# Altium integrated library BMP280.IntLib: 1 symbol
Pins are listed as number, name and electrical type; pins without a type are passive.

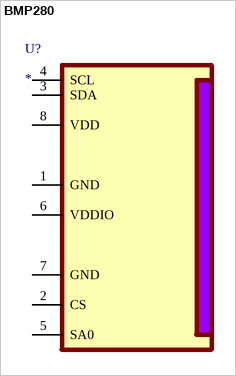
[diagram p0: symbol BMP280]

## BMP280
designator U?
footprint XDCR_BMP280
pins: 1 GND, 2 CS, 3 SDA, 4 SCL, 5 SA0, 6 VDDIO, 7 GND, 8 VDD